# Altium footprint library EEUFK1E471B.PcbLib: 1 footprints
Each footprint in its own frame and in the unit in brackets; x right, y up, seen from the top. Pads: shape width x height; smd on the part's side, far side on the other; paste and mask are expansions set on the pad; w line width, h text height; cw(c..) or ccw(c..) is an arc to the next point about the centre after c.
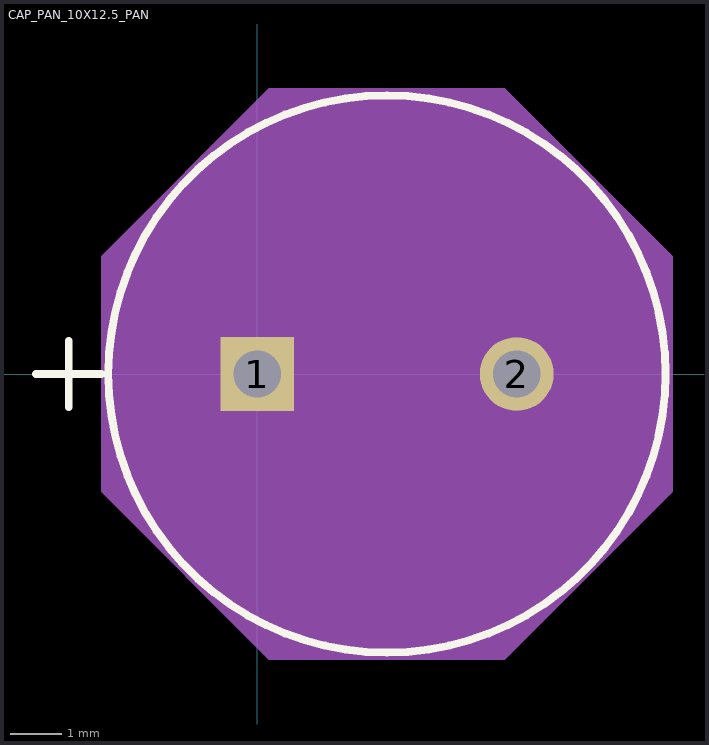
[diagram p0: the footprint, top view; thin cyan lines are the x and y axes]

## CAP_PAN_10X12.5_PAN [mil]
pads (2):
  rect 56x56 hole 36 paste-28 mask+0: 1(0,0)
  round 56 hole 36 paste-28 mask+0: 2(197,0)
Top Overlay:
  circle w6: c98.5,0 r211.5
  lines w6: -168,0 -118,0 ; -143,-25 -143,25
  text ".Designator" at -39,-25 h50
Mechanical 13:
  circle w1: c98.5,0 r206.5
  lines w1: -168,0 -118,0 ; -143,-25 -143,25
  text ".Designator" at -39,-25 h50
Mechanical 15:
  region: -118,89.15 9.35,216.5 187.65,216.5 315,89.15 315,-89.15 187.65,-216.5 9.35,-216.5 -118,-89.15
  lines w1: -118,-89.15 9.35,-216.5 187.65,-216.5 315,-89.15 315,89.15 187.65,216.5 9.35,216.5 -118,89.15 -118,-89.15
3D body "CAP_PAN_10X125_PAN.step": height 532.6, standoff -177.99, extent -107.99,-206.02 305.96,206.02